# EAGLE library part SN74LVC2G241 (library jasons_stuff)
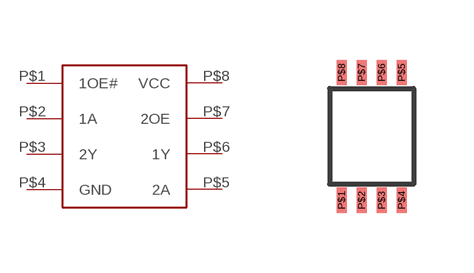
[diagram p10: symbol with the pads of DCU; footprint DCU]

Designator prefix -

## SN74LVC2G241  [DCU]
P$1  1OE#  in
P$2  1A  in
P$3  2Y  out
P$4  GND  pwr
P$5  2A  in
P$6  1Y  out
P$7  2OE  in
P$8  VCC  pwr

## Footprint DCU (pad centres in mm)
smd 0.25 x 0.635: P$1 -0.7,-1.7; P$2 -0.2,-1.7; P$3 0.3,-1.7; P$4 0.8,-1.7; P$5 0.8,1.5; P$6 0.3,1.5; P$7 -0.2,1.5; P$8 -0.7,1.5